# Altium footprint library PH2.0.PcbLib: 1 footprints
Each footprint in its own frame and in the unit in brackets; x right, y up, seen from the top. Pads: shape width x height; smd on the part's side, far side on the other; paste and mask are expansions set on the pad; w line width, h text height; cw(c..) or ccw(c..) is an arc to the next point about the centre after c.
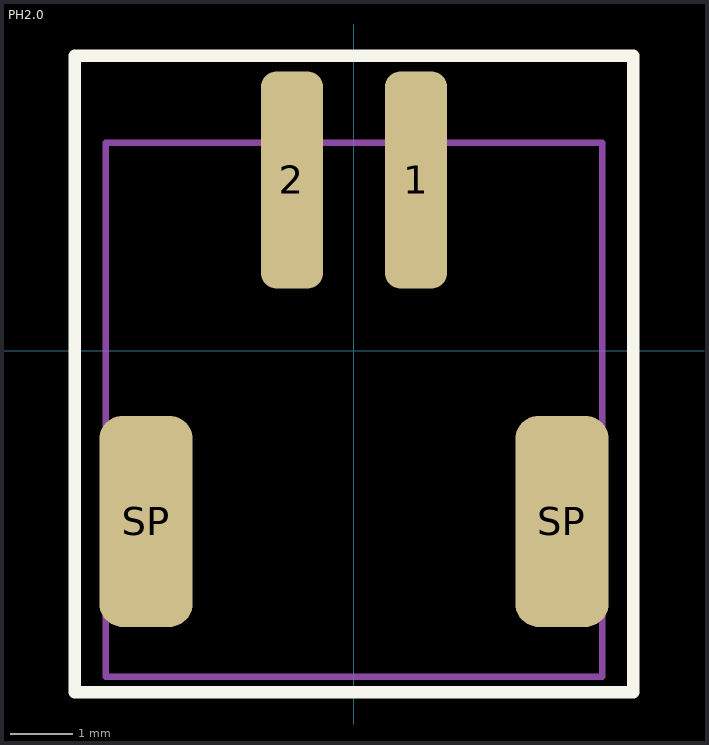
[diagram p0: the footprint, top view; thin cyan lines are the x and y axes]

## PH2.0 [mm]
pads (4):
  rrect50% 1x3.5 smd: 1(1,2.75) 2(-1,2.75)
  rrect50% 1.5x3.4 smd: SP(-3.35,-2.75) SP(3.35,-2.75)
Top Overlay:
  lines w0.2: -4.5,-5.5 -4.5,4.75 4.5,4.75 4.5,-5.5 -4.5,-5.5
Assembly:
  lines w0.1: -4,-5.25 -4,3.35 4,3.35 4,-5.25 -4,-5.25
Courtyard:
  lines w0.05: -4.5,-5.5 -4.5,4.75 4.5,4.746 4.5,-5.5 -4.5,-5.5
3D body "User Library-ph2_0_2p_wt.STEP": height 5.6, standoff 0, extent -4,-5.25 4,3.35